# EAGLE library part TC7107ACPL (library TC7107ACPL)
LED Display Drivers w/LED Driver Source: Datasheet <http://www.microchip.com/mymicrochip/filehandler.aspx?ddocname=en011547>
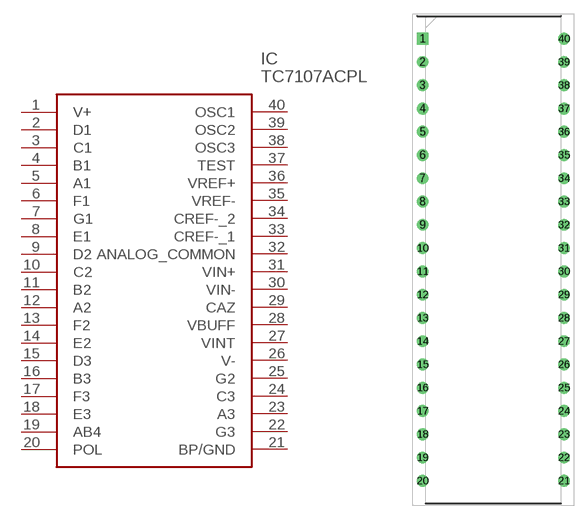
[diagram p0: symbol with the pads of DIP1543W58P254L5175H635Q40N; footprint DIP1543W58P254L5175H635Q40N]

Designator prefix IC

## TC7107ACPL (Description: LED Display Drivers w/LED Driver; Height: 6.35mm; Manufacturer_Name: Microchip; Manufacturer_Part_Number: TC7107ACPL; Mouser_Part_Number: 579-TC7107ACPL; Mouser_Price-Stock: https://www.mouser.co.uk/ProductDetail/Microchip-Technology/TC7107ACPL?qs=6pREnGtJ7gFpv6xnFBTGTQ%3D%3D)  [DIP1543W58P254L5175H635Q40N]
1  V+
2  D1
3  C1
4  B1
5  A1
6  F1
7  G1
8  E1
9  D2
10  C2
11  B2
12  A2
13  F2
14  E2
15  D3
16  B3
17  F3
18  E3
19  AB4
20  POL
21  BP/GND
22  G3
23  A3
24  C3
25  G2
26  V-
27  VINT
28  VBUFF
29  CAZ
30  VIN-
31  VIN+
32  ANALOG_COMMON
33  CREF-_1
34  CREF-_2
35  VREF-
36  VREF+
37  TEST
38  OSC3
39  OSC2
40  OSC1

## Footprint DIP1543W58P254L5175H635Q40N (pad centres in mm)
40 ld PDIP (P) 600 mil
drill 0.784 pad 1.184 square: 1 -7.716,24.13
drill 0.784 pad 1.184: 2 -7.716,21.59; 3 -7.716,19.05; 4 -7.716,16.51; 5 -7.716,13.97; 6 -7.716,11.43; 7 -7.716,8.89; 8 -7.716,6.35; 9 -7.716,3.81; 10 -7.716,1.27; 11 -7.716,-1.27; 12 -7.716,-3.81; 13 -7.716,-6.35; 14 -7.716,-8.89; 15 -7.716,-11.43; 16 -7.716,-13.97; 17 -7.716,-16.51; 18 -7.716,-19.05; 19 -7.716,-21.59; 20 -7.716,-24.13; 21 7.716,-24.13; 22 7.716,-21.59; 23 7.716,-19.05; 24 7.716,-16.51; 25 7.716,-13.97; 26 7.716,-11.43; 27 7.716,-8.89; 28 7.716,-6.35; 29 7.716,-3.81; 30 7.716,-1.27; 31 7.716,1.27; 32 7.716,3.81; 33 7.716,6.35; 34 7.716,8.89; 35 7.716,11.43; 36 7.716,13.97; 37 7.716,16.51; 38 7.716,19.05; 39 7.716,21.59; 40 7.716,24.13